# Altium footprint library D0014A_N.PcbLib: 1 footprints
Each footprint in its own frame and in the unit in brackets; x right, y up, seen from the top. Pads: shape width x height; smd on the part's side, far side on the other; paste and mask are expansions set on the pad; w line width, h text height; cw(c..) or ccw(c..) is an arc to the next point about the centre after c.
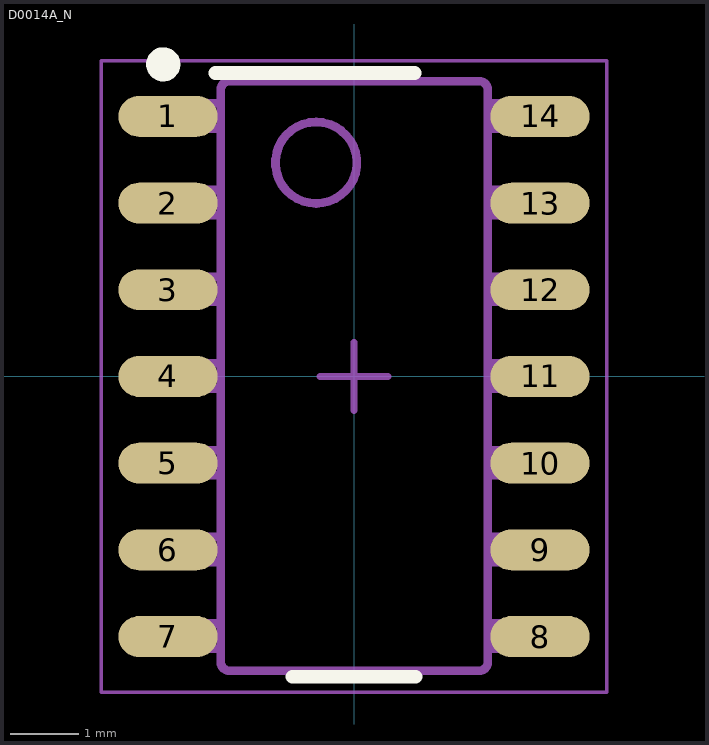
[diagram p0: the footprint, top view; thin cyan lines are the x and y axes]

## D0014A_N [mm]
pads (14):
  oval 1.45x0.6 smd paste+0 mask+0.051: 1(-2.725,3.81) 2(-2.725,2.54) 3(-2.725,1.27) 4(-2.725,0) 5(-2.725,-1.27) 6(-2.725,-2.54) 7(-2.725,-3.81) 8(2.725,-3.81) 9(2.725,-2.54) 10(2.725,-1.27) 11(2.725,0) 12(2.725,1.27) 13(2.725,2.54) 14(2.725,3.81)
Top Overlay:
  circle w0.25: c-2.794,4.572 r0.125
  lines w0.2: -2.032,4.445 0.889,4.445 ; -0.9,-4.4 0.9,-4.4
Mechanical 13:
  drawing of 164 lines, arcs and shapes, not listed
Mechanical 15:
  lines w0.05: -3.7,-4.625 -3.7,4.625 3.7,4.625 3.7,-4.625 -3.7,-4.625
  lines w0.1: -0.5,0 0.5,0 ; 0,-0.5 0,0.5
3D body "D0014A.stp": height 1.75, standoff 0, extent -3.013,-4.325 3.013,4.325
3D body: height 0.25, standoff 0, extent 0,0 0.254,0.254